# Altium footprint library Relay TRB.PcbLib: 2 footprints
Each footprint in its own frame and in the unit in brackets; x right, y up, seen from the top. Pads: shape width x height; smd on the part's side, far side on the other; paste and mask are expansions set on the pad; w line width, h text height; cw(c..) or ccw(c..) is an arc to the next point about the centre after c.
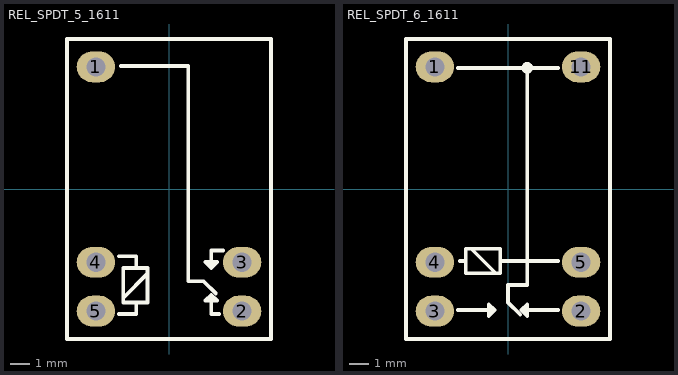
[diagram p0: the footprints below, top view; thin cyan lines are the x and y axes]

## REL_SPDT_5_1611 [mm] "RELAY, SPDT, 15.7X11X12mm, TRBS"
height 12
pads (5):
  oval 2x1.6 hole 1: 1(-3.8,6.35) 2(3.8,-6.35) 3(3.8,-3.81) 4(-3.8,-3.81) 5(-3.8,-6.35)
Top Overlay:
  lines w0.2: -2.6,-6.5 -1.7,-6.5 -1.7,-5.9 ; -2.6,-3.5 -1.7,-3.5 -1.7,-4.1 ; -2.5,6.4 1,6.4 1,-4.8 1.8,-4.8 2.435,-5.435 ; -2.379,-5.662 -1.109,-4.392 ; 2.6,-6.5 2.2,-6.5 2.2,-5.5 ; 2.8,-3.2 2.2,-3.2 2.2,-4.1 ; 2.2,-5.5 2.5,-5.8 1.9,-5.8 2.2,-5.5 ; 2.2,-4.1 1.9,-3.8 2.5,-3.8 2.2,-4.1 ; -5.3,-7.8 -5.3,7.8 5.3,7.8 5.3,-7.8 -5.3,-7.8 ; -2.379,-5.9 -1.109,-5.9 -1.109,-4.1 -2.379,-4.1 -2.379,-5.9
3D body "User Library-HK4100F.step": height 11.81, standoff -2.75, extent -5.2,-7.7 5.2,7.7

## REL_SPDT_6_1611 [mm] "RELAY, SPDT, 15.7X11X12mm, HFD41, HK4100F, TRB"
height 12
pads (6):
  oval 2x1.6 hole 1: 1(-3.8,6.35) 2(3.8,-6.35) 3(-3.8,-6.35) 4(-3.8,-3.81) 5(3.8,-3.81) 11(3.8,6.35)
Top Overlay:
  circle w0.2: c1,6.3 r0.2
  lines w0.2: -2.6,-6.3 -0.7,-6.3 ; -2.6,6.3 2.6,6.3 ; -2.5,-3.744 -2.297,-3.744 ; -1.908,-3.109 -0.638,-4.379 ; -0.4,-3.744 2.6,-3.744 ; 0.635,-6.535 0,-5.9 0,-5 1,-5 1,6.3 ; 2.6,-6.3 0.7,-6.3 ; -0.7,-6.3 -1,-6 -1,-6.6 -0.7,-6.3 ; 0.7,-6.3 1,-6.6 1,-6 0.7,-6.3 ; -5.3,-7.8 -5.3,7.8 5.3,7.8 5.3,-7.8 -5.3,-7.8 ; -2.2,-4.379 -0.4,-4.379 -0.4,-3.109 -2.2,-3.109 -2.2,-4.379
3D body "User Library-HK4100F.step": height 11.81, standoff -2.75, extent -5.2,-7.7 5.2,7.7